# Altium footprint library DF12NB(3.0)-80DS-0.5V.PcbLib: 1 footprints
Each footprint in its own frame and in the unit in brackets; x right, y up, seen from the top. Pads: shape width x height; smd on the part's side, far side on the other; paste and mask are expansions set on the pad; w line width, h text height; cw(c..) or ccw(c..) is an arc to the next point about the centre after c.
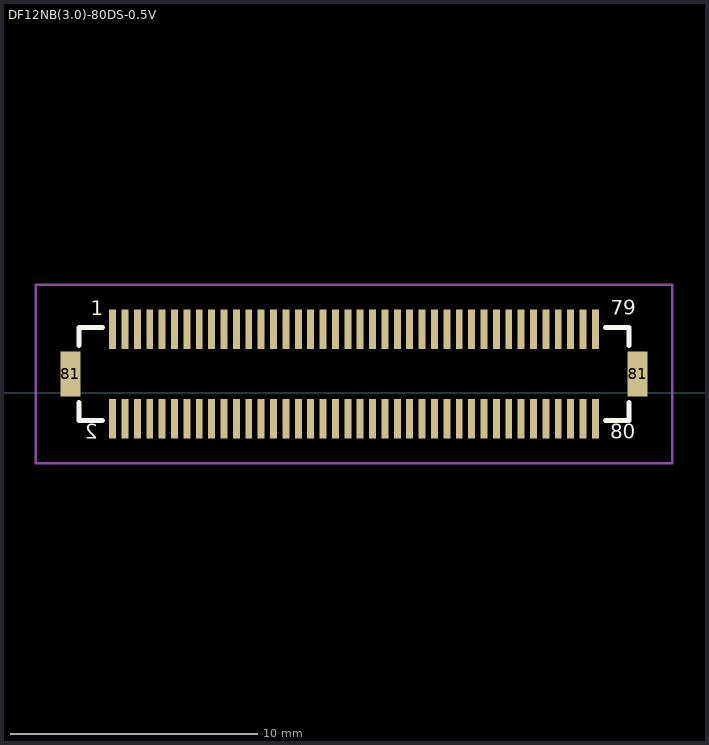
[diagram p0: the footprint, top view; thin cyan lines are the x and y axes]

## DF12NB(3.0)-80DS-0.5V [mm]
pads (82):
  rect 0.28x1.6 smd: 1(5.5,2.55) 2(5.5,-1.05) 3(6,2.55) 4(6,-1.05) 5(6.5,2.55) 6(6.5,-1.05) 7(7,2.55) 8(7,-1.05) 9(7.5,2.55) 10(7.5,-1.05) 11(8,2.55) 12(8,-1.05) 13(8.5,2.55) 14(8.5,-1.05) 15(9,2.55) 16(9,-1.05) 17(9.5,2.55) 18(9.5,-1.05) 19(10,2.55) 20(10,-1.05) 21(10.5,2.55) 22(10.5,-1.05) 23(11,2.55) 24(11,-1.05) 25(11.5,2.55) 26(11.5,-1.05) 27(12,2.55) 28(12,-1.05) 29(12.5,2.55) 30(12.5,-1.05) 31(13,2.55) 32(13,-1.05) 33(13.5,2.55) 34(13.5,-1.05) 35(14,2.55) 36(14,-1.05) 37(14.5,2.55) 38(14.5,-1.05) 39(15,2.55) 40(15,-1.05) 41(15.5,2.55) 42(15.5,-1.05) 43(16,2.55) 44(16,-1.05) 45(16.5,2.55) 46(16.5,-1.05) 47(17,2.55) 48(17,-1.05) 49(17.5,2.55) 50(17.5,-1.05) 51(18,2.55) 52(18,-1.05) 53(18.5,2.55) 54(18.5,-1.05) 55(19,2.55) 56(19,-1.05) 57(19.5,2.55) 58(19.5,-1.05) 59(20,2.55) 60(20,-1.05) 61(20.5,2.55) 62(20.5,-1.05) 63(21,2.55) 64(21,-1.05) 65(21.5,2.55) 66(21.5,-1.05) 67(22,2.55) 68(22,-1.05) 69(22.5,2.55) 70(22.5,-1.05) 71(23,2.55) 72(23,-1.05) 73(23.5,2.55) 74(23.5,-1.05) 75(24,2.55) 76(24,-1.05) 77(24.5,2.55) 78(24.5,-1.05) 79(25,2.55) 80(25,-1.05)
  rect 0.8x1.8 smd: 81(3.8,0.75) 81(26.7,0.75)
Top Overlay:
  lines w0.2: 4.15,-0.4 4.15,-1.125 5.1,-1.125 ; 4.15,1.9 4.15,2.625 5.1,2.625 ; 25.4,-1.125 26.35,-1.125 26.35,-0.4 ; 25.4,2.625 26.35,2.625 26.35,1.9
  text "80" at 25.6,-2.063 h1
  text "1" at 4.625,2.925 h1
  text "2" at 4.9,-2.075 h1
  text "79" at 25.625,2.937 h1
Top Courtyard:
  lines w0.1: 2.4,-2.85 2.4,4.35 28.1,4.35 28.1,-2.85 2.4,-2.85
3D body "DF12NB(3.0)-80DS.stp": height 2.2, standoff 0, extent 3.7,-1.55 26.8,3.05